# Altium integrated library Microchip Power Management MOSFET Driver.IntLib: 509 symbols (part 2 of 13)
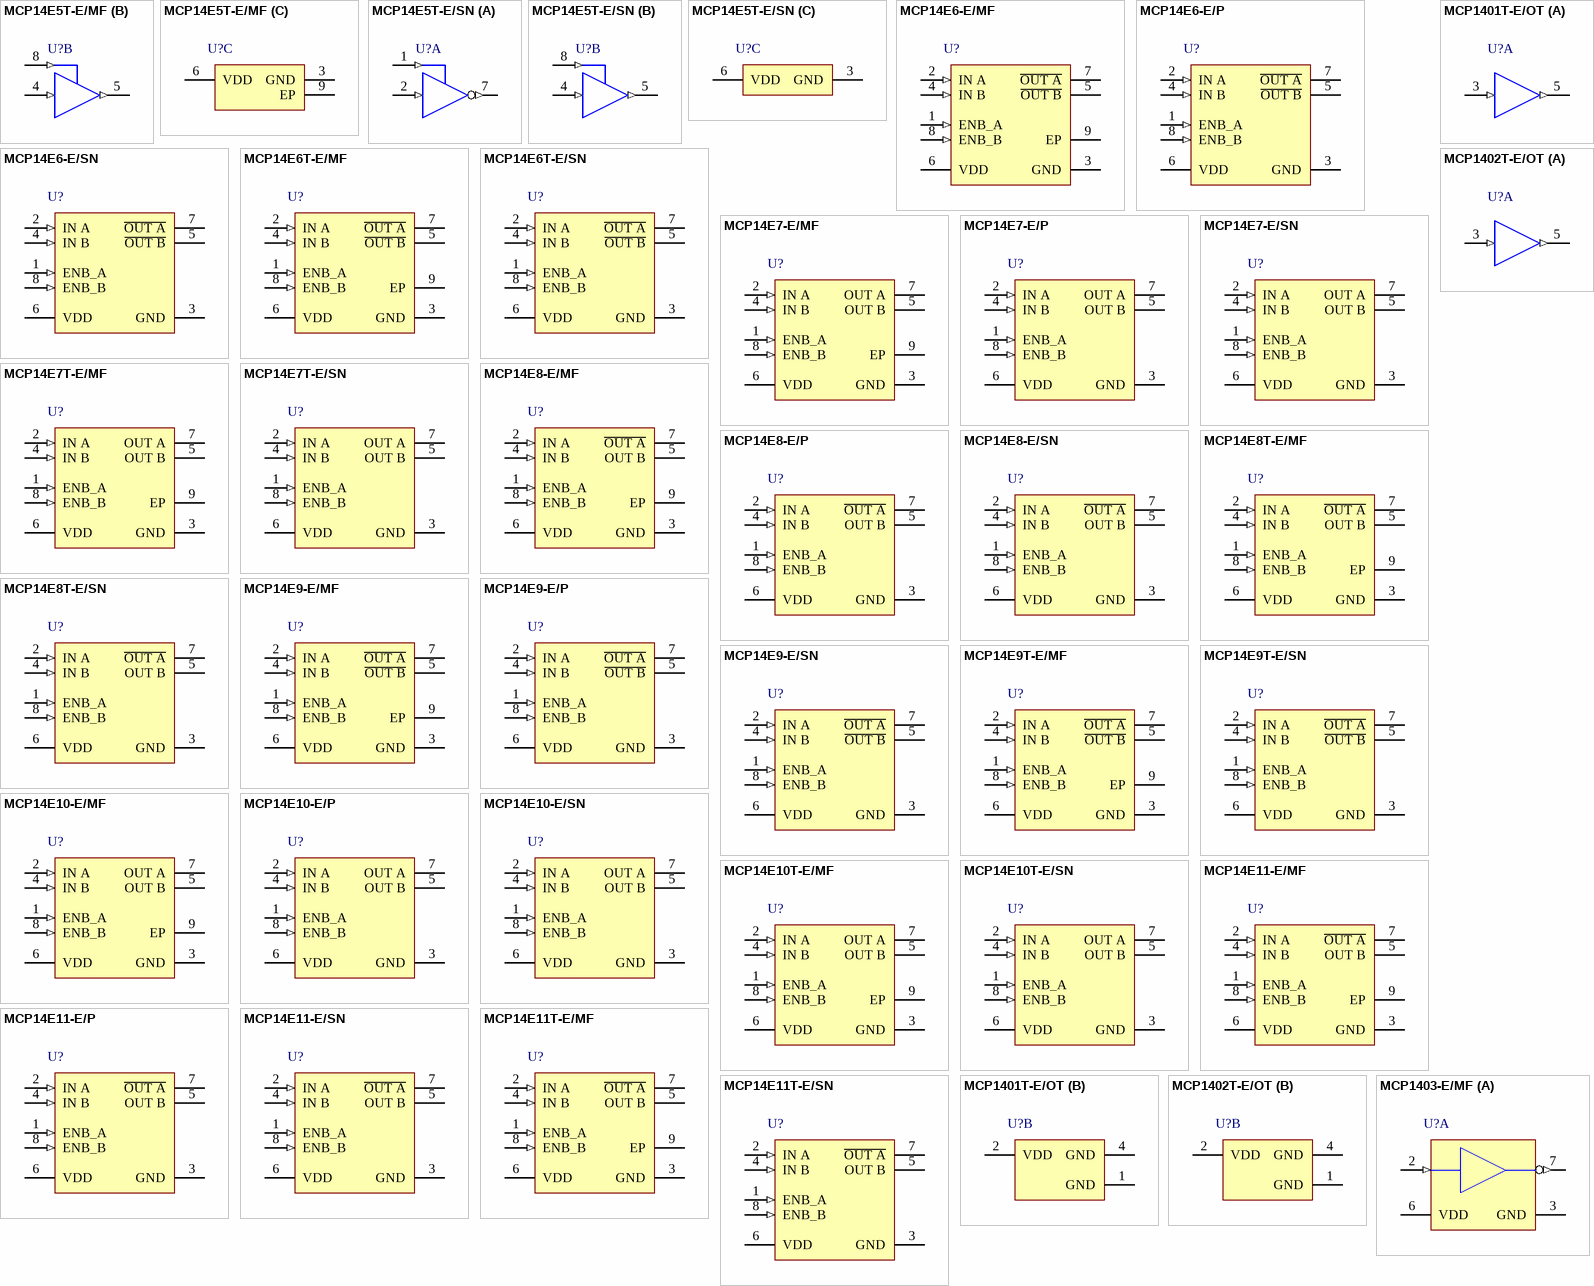
[diagram p27: symbols MCP14E5T-E/MF to MCP1403-E/MF]

## MCP14E10-E/MF
designator U?
3.0 A Dual High-Speed Power MOSFET Driver with Enable, 18 V, 45 / 45 ns Delay, -40 to 125 degC, 8-pin DFN (MF8), Tube; Manufacturer: Microchip; PartNumber: MCP14E10-E/MF; DatasheetVersion: Rev. A; PackageVersion: C04-062C; PackageReference: DFN-MF8; PackageDescription: 8-Lead Plastic Dual Flat, No Lead Package, 3 x 3 mm Body, 0.65 mm Pitch; Supplier 1: Digi-Key; Supplier Part Number 1: MCP14E10-E/MF-ND; Supplier 2: Farnell; Supplier Part Number 2: 1925026; Supplier 3: Newark; Supplier Part Number 3: 41T4109; Supplier 4: Mouser; Supplier Part Number 4: 579-MCP14E10-E/MF; Mounting Technology: Surface Mount; ComponentLink1Description: Manufacturer URL; ComponentLink1URL: http://www.microchip.com; ComponentLink2Description: Datasheet; ComponentLink2URL: http://ww1.microchip.com/downloads/en/DeviceDoc/25005A_MCP14E9.pdf; ComponentLink3Description: Package Specification; ComponentLink3URL: http://www.microchip.com/stellent/groups/techpub_sg/documents/packagingspec/en012702.pdf; ComponentLink4Description: Product URL; ComponentLink4URL: http://www.microchip.com/MCP14E10
footprint MCHP-DFN-MF8_V (SON, 8-Leads, Body 3x3mm, Pitch 0.65mm, Thermal Pad 2.4x1.55mm)
pins: 1 ENB_A (in) "Ouptut A Enable", 2 IN A (in) "Input A", 3 GND (power) "Ground", 4 IN B (in) "Input B", 5 OUT B (power) "Output B", 6 VDD (power) "Supply Input", 7 OUT A (power) "Output A", 8 ENB_B (in) "Output B Enable", 9 EP "Exposed Metal Pad (DFN package only). Exposed pad is electrically isolated."

## MCP14E10-E/P
designator U?
3.0 A Dual High-Speed Power MOSFET Driver with Enable, 18 V, 45 / 45 ns Delay, -40 to 125 degC, 8-pin PDIP (P8), Tube; Manufacturer: Microchip; PartNumber: MCP14E10-E/P; DatasheetVersion: Rev. A; PackageVersion: C04-018B; PackageReference: PDIP-P8; PackageDescription: 8-Pin Plastic Dual In-Line, Row Spacing 7.62 mm, 9.5 x 6.6 mm Body, 2.54 mm Pitch; Supplier 1: Digi-Key; Supplier Part Number 1: MCP14E10-E/P-ND; Supplier 2: Farnell; Supplier Part Number 2: 1925028; Supplier 3: Newark; Supplier Part Number 3: 41T4110; Supplier 4: Mouser; Supplier Part Number 4: 579-MCP14E10-E/P; Mounting Technology: Through Hole; ComponentLink1Description: Manufacturer URL; ComponentLink1URL: http://www.microchip.com; ComponentLink2Description: Datasheet; ComponentLink2URL: http://ww1.microchip.com/downloads/en/DeviceDoc/25005A_MCP14E9.pdf; ComponentLink3Description: Package Specification; ComponentLink3URL: http://www.microchip.com/stellent/groups/techpub_sg/documents/packagingspec/en012702.pdf; ComponentLink4Description: Product URL; ComponentLink4URL: http://www.microchip.com/MCP14E10
footprint MCHP-PDIP-P8 (PDIP, 8-Leads, Body 9.5x6.604mm, Pitch 2.54mm)
pins: 1 ENB_A (in) "Ouptut A Enable", 2 IN A (in) "Input A", 3 GND (power) "Ground", 4 IN B (in) "Input B", 5 OUT B (power) "Output B", 6 VDD (power) "Supply Input", 7 OUT A (power) "Output A", 8 ENB_B (in) "Output B Enable"

## MCP14E10-E/SN
designator U?
3.0 A Dual High-Speed Power MOSFET Driver with Enable, 18 V, 45 / 45 ns Delay, -40 to 125 degC, 8-pin SOIC (SN8), Tube; Manufacturer: Microchip; PartNumber: MCP14E10-E/SN; DatasheetVersion: Rev. A; PackageVersion: C04-057C; PackageReference: SOIC-SN8; PackageDescription: 8-Lead Plastic Small Outline, 4.9 x 3.9 mm Body, 1.27 mm Pitch; Supplier 1: Digi-Key; Supplier Part Number 1: MCP14E10-E/SN-ND; Supplier 2: Farnell; Supplier Part Number 2: 1925029; Supplier 3: Newark; Supplier Part Number 3: 41T4111; Supplier 4: Mouser; Supplier Part Number 4: 579-MCP14E10-E/SN; Mounting Technology: Surface Mount; ComponentLink1Description: Manufacturer URL; ComponentLink1URL: http://www.microchip.com; ComponentLink2Description: Datasheet; ComponentLink2URL: http://ww1.microchip.com/downloads/en/DeviceDoc/25005A_MCP14E9.pdf; ComponentLink3Description: Package Specification; ComponentLink3URL: http://www.microchip.com/stellent/groups/techpub_sg/documents/packagingspec/en012702.pdf; ComponentLink4Description: Product URL; ComponentLink4URL: http://www.microchip.com/MCP14E10
footprint MCHP-SOIC-SN8_N (SOIC, 8-Leads, Body 4.9x3.9mm, Pitch 1.27mm, IPC Medium Density)
footprint MCHP-SOIC-SN8_L (SOIC, 8-Leads, Body 4.9x3.9mm, Pitch 1.27mm, IPC High Density)
footprint MCHP-SOIC-SN8_M (SOIC, 8-Leads, Body 4.9x3.9mm, Pitch 1.27mm, IPC Low Density)
pins: 1 ENB_A (in) "Ouptut A Enable", 2 IN A (in) "Input A", 3 GND (power) "Ground", 4 IN B (in) "Input B", 5 OUT B (power) "Output B", 6 VDD (power) "Supply Input", 7 OUT A (power) "Output A", 8 ENB_B (in) "Output B Enable"

## MCP14E10T-E/MF
designator U?
3.0 A Dual High-Speed Power MOSFET Driver with Enable, 18 V, 45 / 45 ns Delay, -40 to 125 degC, 8-pin DFN (MF8), Tape and Reel; Manufacturer: Microchip; PartNumber: MCP14E10T-E/MF; DatasheetVersion: Rev. A; PackageVersion: C04-062C; PackageReference: DFN-MF8; PackageDescription: 8-Lead Plastic Dual Flat, No Lead Package, 3 x 3 mm Body, 0.65 mm Pitch; Supplier 1: Digi-Key; Supplier Part Number 1: MCP14E10T-E/MF-ND; Supplier 2: Mouser; Supplier Part Number 2: 579-MCP14E10T-E/MF; Mounting Technology: Surface Mount; ComponentLink1Description: Manufacturer URL; ComponentLink1URL: http://www.microchip.com; ComponentLink2Description: Datasheet; ComponentLink2URL: http://ww1.microchip.com/downloads/en/DeviceDoc/25005A_MCP14E9.pdf; ComponentLink3Description: Package Specification; ComponentLink3URL: http://www.microchip.com/stellent/groups/techpub_sg/documents/packagingspec/en012702.pdf; ComponentLink4Description: Product URL; ComponentLink4URL: http://www.microchip.com/MCP14E10
footprint MCHP-DFN-MF8_V (SON, 8-Leads, Body 3x3mm, Pitch 0.65mm, Thermal Pad 2.4x1.55mm)
pins: 1 ENB_A (in) "Ouptut A Enable", 2 IN A (in) "Input A", 3 GND (power) "Ground", 4 IN B (in) "Input B", 5 OUT B (power) "Output B", 6 VDD (power) "Supply Input", 7 OUT A (power) "Output A", 8 ENB_B (in) "Output B Enable", 9 EP "Exposed Metal Pad (DFN package only). Exposed pad is electrically isolated."

## MCP14E10T-E/SN
designator U?
3.0 A Dual High-Speed Power MOSFET Driver with Enable, 18 V, 45 / 45 ns Delay, -40 to 125 degC, 8-pin SOIC (SN8), Tape and Reel; Manufacturer: Microchip; PartNumber: MCP14E10T-E/SN; DatasheetVersion: Rev. A; PackageVersion: C04-057C; PackageReference: SOIC-SN8; PackageDescription: 8-Lead Plastic Small Outline, 4.9 x 3.9 mm Body, 1.27 mm Pitch; Supplier 1: Digi-Key; Supplier Part Number 1: MCP14E10T-E/SN-ND; Supplier 2: Mouser; Supplier Part Number 2: 579-MCP14E10T-E/SN; Mounting Technology: Surface Mount; ComponentLink1Description: Manufacturer URL; ComponentLink1URL: http://www.microchip.com; ComponentLink2Description: Datasheet; ComponentLink2URL: http://ww1.microchip.com/downloads/en/DeviceDoc/25005A_MCP14E9.pdf; ComponentLink3Description: Package Specification; ComponentLink3URL: http://www.microchip.com/stellent/groups/techpub_sg/documents/packagingspec/en012702.pdf; ComponentLink4Description: Product URL; ComponentLink4URL: http://www.microchip.com/MCP14E10
footprint MCHP-SOIC-SN8_N (SOIC, 8-Leads, Body 4.9x3.9mm, Pitch 1.27mm, IPC Medium Density)
footprint MCHP-SOIC-SN8_L (SOIC, 8-Leads, Body 4.9x3.9mm, Pitch 1.27mm, IPC High Density)
footprint MCHP-SOIC-SN8_M (SOIC, 8-Leads, Body 4.9x3.9mm, Pitch 1.27mm, IPC Low Density)
pins: 1 ENB_A (in) "Ouptut A Enable", 2 IN A (in) "Input A", 3 GND (power) "Ground", 4 IN B (in) "Input B", 5 OUT B (power) "Output B", 6 VDD (power) "Supply Input", 7 OUT A (power) "Output A", 8 ENB_B (in) "Output B Enable"

## MCP14E11-E/MF
designator U?
3.0 A Dual High-Speed Power MOSFET Driver with Enable, 18 V, 45 / 45 ns Delay, -40 to 125 degC, 8-pin DFN (MF8), Tube; Manufacturer: Microchip; PartNumber: MCP14E11-E/MF; DatasheetVersion: Rev. A; PackageVersion: C04-062C; PackageReference: DFN-MF8; PackageDescription: 8-Lead Plastic Dual Flat, No Lead Package, 3 x 3 mm Body, 0.65 mm Pitch; Supplier 1: Digi-Key; Supplier Part Number 1: MCP14E11-E/MF-ND; Supplier 2: Farnell; Supplier Part Number 2: 1925030; Supplier 3: Newark; Supplier Part Number 3: 41T4114; Supplier 4: Mouser; Supplier Part Number 4: 579-MCP14E11-E/MF; Mounting Technology: Surface Mount; ComponentLink1Description: Manufacturer URL; ComponentLink1URL: http://www.microchip.com; ComponentLink2Description: Datasheet; ComponentLink2URL: http://ww1.microchip.com/downloads/en/DeviceDoc/25005A_MCP14E9.pdf; ComponentLink3Description: Package Specification; ComponentLink3URL: http://www.microchip.com/stellent/groups/techpub_sg/documents/packagingspec/en012702.pdf; ComponentLink4Description: Product URL; ComponentLink4URL: http://www.microchip.com/MCP14E11
footprint MCHP-DFN-MF8_V (SON, 8-Leads, Body 3x3mm, Pitch 0.65mm, Thermal Pad 2.4x1.55mm)
pins: 1 ENB_A (in) "Ouptut A Enable", 2 IN A (in) "Input A", 3 GND (power) "Ground", 4 IN B (in) "Input B", 5 OUT B (power) "Output B", 6 VDD (power) "Supply Input", 7 ~{OUT A} (power) "Output A", 8 ENB_B (in) "Output B Enable", 9 EP "Exposed Metal Pad (DFN package only). Exposed pad is electrically isolated."

## MCP14E11-E/P
designator U?
3.0 A Dual High-Speed Power MOSFET Driver with Enable, 18 V, 45 / 45 ns Delay, -40 to 125 degC, 8-pin PDIP (P8), Tube; Manufacturer: Microchip; PartNumber: MCP14E11-E/P; DatasheetVersion: Rev. A; PackageVersion: C04-018B; PackageReference: PDIP-P8; PackageDescription: 8-Pin Plastic Dual In-Line, Row Spacing 7.62 mm, 9.5 x 6.6 mm Body, 2.54 mm Pitch; Supplier 1: Digi-Key; Supplier Part Number 1: MCP14E11-E/P-ND; Supplier 2: Farnell; Supplier Part Number 2: 2009285; Supplier 3: Newark; Supplier Part Number 3: 41T4115; Supplier 4: Mouser; Supplier Part Number 4: 579-MCP14E11-E/P; Mounting Technology: Through Hole; ComponentLink1Description: Manufacturer URL; ComponentLink1URL: http://www.microchip.com; ComponentLink2Description: Datasheet; ComponentLink2URL: http://ww1.microchip.com/downloads/en/DeviceDoc/25005A_MCP14E9.pdf; ComponentLink3Description: Package Specification; ComponentLink3URL: http://www.microchip.com/stellent/groups/techpub_sg/documents/packagingspec/en012702.pdf; ComponentLink4Description: Product URL; ComponentLink4URL: http://www.microchip.com/MCP14E11
footprint MCHP-PDIP-P8 (PDIP, 8-Leads, Body 9.5x6.604mm, Pitch 2.54mm)
pins: 1 ENB_A (in) "Ouptut A Enable", 2 IN A (in) "Input A", 3 GND (power) "Ground", 4 IN B (in) "Input B", 5 OUT B (power) "Output B", 6 VDD (power) "Supply Input", 7 ~{OUT A} (power) "Output A", 8 ENB_B (in) "Output B Enable"

## MCP14E11-E/SN
designator U?
3.0 A Dual High-Speed Power MOSFET Driver with Enable, 18 V, 45 / 45 ns Delay, -40 to 125 degC, 8-pin SOIC (SN8), Tube; Manufacturer: Microchip; PartNumber: MCP14E11-E/SN; DatasheetVersion: Rev. A; PackageVersion: C04-057C; PackageReference: SOIC-SN8; PackageDescription: 8-Lead Plastic Small Outline, 4.9 x 3.9 mm Body, 1.27 mm Pitch; Supplier 1: Digi-Key; Supplier Part Number 1: MCP14E11-E/SN-ND; Supplier 2: Farnell; Supplier Part Number 2: 1925031; Supplier 3: Newark; Supplier Part Number 3: 41T4116; Supplier 4: Mouser; Supplier Part Number 4: 579-MCP14E11-E/SN; Mounting Technology: Surface Mount; ComponentLink1Description: Manufacturer URL; ComponentLink1URL: http://www.microchip.com; ComponentLink2Description: Datasheet; ComponentLink2URL: http://ww1.microchip.com/downloads/en/DeviceDoc/25005A_MCP14E9.pdf; ComponentLink3Description: Package Specification; ComponentLink3URL: http://www.microchip.com/stellent/groups/techpub_sg/documents/packagingspec/en012702.pdf; ComponentLink4Description: Product URL; ComponentLink4URL: http://www.microchip.com/MCP14E11
footprint MCHP-SOIC-SN8_N (SOIC, 8-Leads, Body 4.9x3.9mm, Pitch 1.27mm, IPC Medium Density)
footprint MCHP-SOIC-SN8_L (SOIC, 8-Leads, Body 4.9x3.9mm, Pitch 1.27mm, IPC High Density)
footprint MCHP-SOIC-SN8_M (SOIC, 8-Leads, Body 4.9x3.9mm, Pitch 1.27mm, IPC Low Density)
pins: 1 ENB_A (in) "Ouptut A Enable", 2 IN A (in) "Input A", 3 GND (power) "Ground", 4 IN B (in) "Input B", 5 OUT B (power) "Output B", 6 VDD (power) "Supply Input", 7 ~{OUT A} (power) "Output A", 8 ENB_B (in) "Output B Enable"

## MCP14E11T-E/MF
designator U?
3.0 A Dual High-Speed Power MOSFET Driver with Enable, 18 V, 45 / 45 ns Delay, -40 to 125 degC, 8-pin DFN (MF8), Tape and Reel; Manufacturer: Microchip; PartNumber: MCP14E11T-E/MF; DatasheetVersion: Rev. A; PackageVersion: C04-062C; PackageReference: DFN-MF8; PackageDescription: 8-Lead Plastic Dual Flat, No Lead Package, 3 x 3 mm Body, 0.65 mm Pitch; Supplier 1: Digi-Key; Supplier Part Number 1: MCP14E11T-E/MF-ND; Supplier 2: Mouser; Supplier Part Number 2: 579-MCP14E11T-E/MF; Mounting Technology: Surface Mount; ComponentLink1Description: Manufacturer URL; ComponentLink1URL: http://www.microchip.com; ComponentLink2Description: Datasheet; ComponentLink2URL: http://ww1.microchip.com/downloads/en/DeviceDoc/25005A_MCP14E9.pdf; ComponentLink3Description: Package Specification; ComponentLink3URL: http://www.microchip.com/stellent/groups/techpub_sg/documents/packagingspec/en012702.pdf; ComponentLink4Description: Product URL; ComponentLink4URL: http://www.microchip.com/MCP14E11
footprint MCHP-DFN-MF8_V (SON, 8-Leads, Body 3x3mm, Pitch 0.65mm, Thermal Pad 2.4x1.55mm)
pins: 1 ENB_A (in) "Ouptut A Enable", 2 IN A (in) "Input A", 3 GND (power) "Ground", 4 IN B (in) "Input B", 5 OUT B (power) "Output B", 6 VDD (power) "Supply Input", 7 ~{OUT A} (power) "Output A", 8 ENB_B (in) "Output B Enable", 9 EP "Exposed Metal Pad (DFN package only). Exposed pad is electrically isolated."

## MCP14E11T-E/SN
designator U?
3.0 A Dual High-Speed Power MOSFET Driver with Enable, 18 V, 45 / 45 ns Delay, -40 to 125 degC, 8-pin SOIC (SN8), Tape and Reel; Manufacturer: Microchip; PartNumber: MCP14E11T-E/SN; DatasheetVersion: Rev. A; PackageVersion: C04-057C; PackageReference: SOIC-SN8; PackageDescription: 8-Lead Plastic Small Outline, 4.9 x 3.9 mm Body, 1.27 mm Pitch; Supplier 1: Digi-Key; Supplier Part Number 1: MCP14E11T-E/SN-ND; Supplier 2: Newark; Supplier Part Number 2: 41T4118; Supplier 3: Mouser; Supplier Part Number 3: 579-MCP14E11T-E/SN; Mounting Technology: Surface Mount; ComponentLink1Description: Manufacturer URL; ComponentLink1URL: http://www.microchip.com; ComponentLink2Description: Datasheet; ComponentLink2URL: http://ww1.microchip.com/downloads/en/DeviceDoc/25005A_MCP14E9.pdf; ComponentLink3Description: Package Specification; ComponentLink3URL: http://www.microchip.com/stellent/groups/techpub_sg/documents/packagingspec/en012702.pdf; ComponentLink4Description: Product URL; ComponentLink4URL: http://www.microchip.com/MCP14E11
footprint MCHP-SOIC-SN8_N (SOIC, 8-Leads, Body 4.9x3.9mm, Pitch 1.27mm, IPC Medium Density)
footprint MCHP-SOIC-SN8_L (SOIC, 8-Leads, Body 4.9x3.9mm, Pitch 1.27mm, IPC High Density)
footprint MCHP-SOIC-SN8_M (SOIC, 8-Leads, Body 4.9x3.9mm, Pitch 1.27mm, IPC Low Density)
pins: 1 ENB_A (in) "Ouptut A Enable", 2 IN A (in) "Input A", 3 GND (power) "Ground", 4 IN B (in) "Input B", 5 OUT B (power) "Output B", 6 VDD (power) "Supply Input", 7 ~{OUT A} (power) "Output A", 8 ENB_B (in) "Output B Enable"

## MCP1401T-E/OT
designator U?
Tiny 500 mA, High-Speed Power MOSFET Driver, Inverting, Extended Temperature, Tape and Reel; Manufacturer: Microchip; PartNumber: MCP1401T-E/OT; DatasheetVersion: revB, Dec-2007; PackageVersion: revBB, Aug-2009; PackageReference: SOT-23-OT5; PackageDescription: 5-Lead Plastic Small Outline Transistor (OT) [SOT-23]; Supplier 1: Digi-Key; Supplier Part Number 1: MCP1401T-E/OTTR-ND; Supplier 2: Digi-Key; Supplier Part Number 2: MCP1401T-E/OTCT-ND; Supplier 3: Digi-Key; Supplier Part Number 3: MCP1401T-E/OTDKR-ND; Supplier 4: Farnell; Supplier Part Number 4: 1439710; Supplier 5: Newark; Supplier Part Number 5: 58M8863; Supplier 6: Newark; Supplier Part Number 6: 54M4815; Supplier 7: Mouser; Supplier Part Number 7: 579-MCP1401T-E/OT; Mounting Technology: Surface Mount; Code_IPC: SOT23-5; ComponentLink1Description: Manufacturer URL; ComponentLink1URL: http://www.microchip.com/; ComponentLink2Description: Datasheet; ComponentLink2URL: http://ww1.microchip.com/downloads/en/DeviceDoc/22052b.pdf; ComponentLink3Description: Package Specification; ComponentLink3URL: http://www.microchip.com/stellent/groups/techpub_sg/documents/packagingspec/en012702.pdf
footprint SOT-23-OT5_N (SOT23, 5-Leads, Body 2.9x1.6mm, Pitch 0.95mm, Lead Span 2.7mm, IPC Medium Density)
footprint SOT-23-OT5_L (SOT23, 5-Leads, Body 2.9x1.6mm, Pitch 0.95mm, Lead Span 2.7mm, IPC High Density)
footprint SOT-23-OT5_M (SOT23, 5-Leads, Body 2.9x1.6mm, Pitch 0.95mm, Lead Span 2.7mm, IPC Low Density)
part A pins: 3 IN (in), 5 ~{OUT} (out)
part B pins: 1 GND (power), 2 VDD (power), 4 GND (power)

## MCP1402T-E/OT
designator U?
Tiny 500 mA, High-Speed Power MOSFET Driver, Non Inverting, Extended Temperature, Tape and Reel; Manufacturer: Microchip; PartNumber: MCP1402T-E/OT; DatasheetVersion: revB, Dec-2007; PackageVersion: revBB, Aug-2009; PackageReference: SOT-23-OT5; PackageDescription: 5-Lead Plastic Small Outline Transistor (OT) [SOT-23]; Supplier 1: Digi-Key; Supplier Part Number 1: MCP1402T-E/OTTR-ND; Supplier 2: Digi-Key; Supplier Part Number 2: MCP1402T-E/OTCT-ND; Supplier 3: Digi-Key; Supplier Part Number 3: MCP1402T-E/OTDKR-ND; Supplier 4: Farnell; Supplier Part Number 4: 1439711; Supplier 5: Newark; Supplier Part Number 5: 54M4816; Supplier 6: Mouser; Supplier Part Number 6: 579-MCP1402T-E/OT; Mounting Technology: Surface Mount; Code_IPC: SOT23-5; ComponentLink1Description: Manufacturer URL; ComponentLink1URL: http://www.microchip.com/; ComponentLink2Description: Datasheet; ComponentLink2URL: http://ww1.microchip.com/downloads/en/DeviceDoc/22052b.pdf; ComponentLink3Description: Package Specification; ComponentLink3URL: http://www.microchip.com/stellent/groups/techpub_sg/documents/packagingspec/en012702.pdf
footprint SOT-23-OT5_N (SOT23, 5-Leads, Body 2.9x1.6mm, Pitch 0.95mm, Lead Span 2.7mm, IPC Medium Density)
footprint SOT-23-OT5_L (SOT23, 5-Leads, Body 2.9x1.6mm, Pitch 0.95mm, Lead Span 2.7mm, IPC High Density)
footprint SOT-23-OT5_M (SOT23, 5-Leads, Body 2.9x1.6mm, Pitch 0.95mm, Lead Span 2.7mm, IPC Low Density)
part A pins: 3 IN (in), 5 OUT (out)
part B pins: 1 GND (power), 2 VDD (power), 4 GND (power)

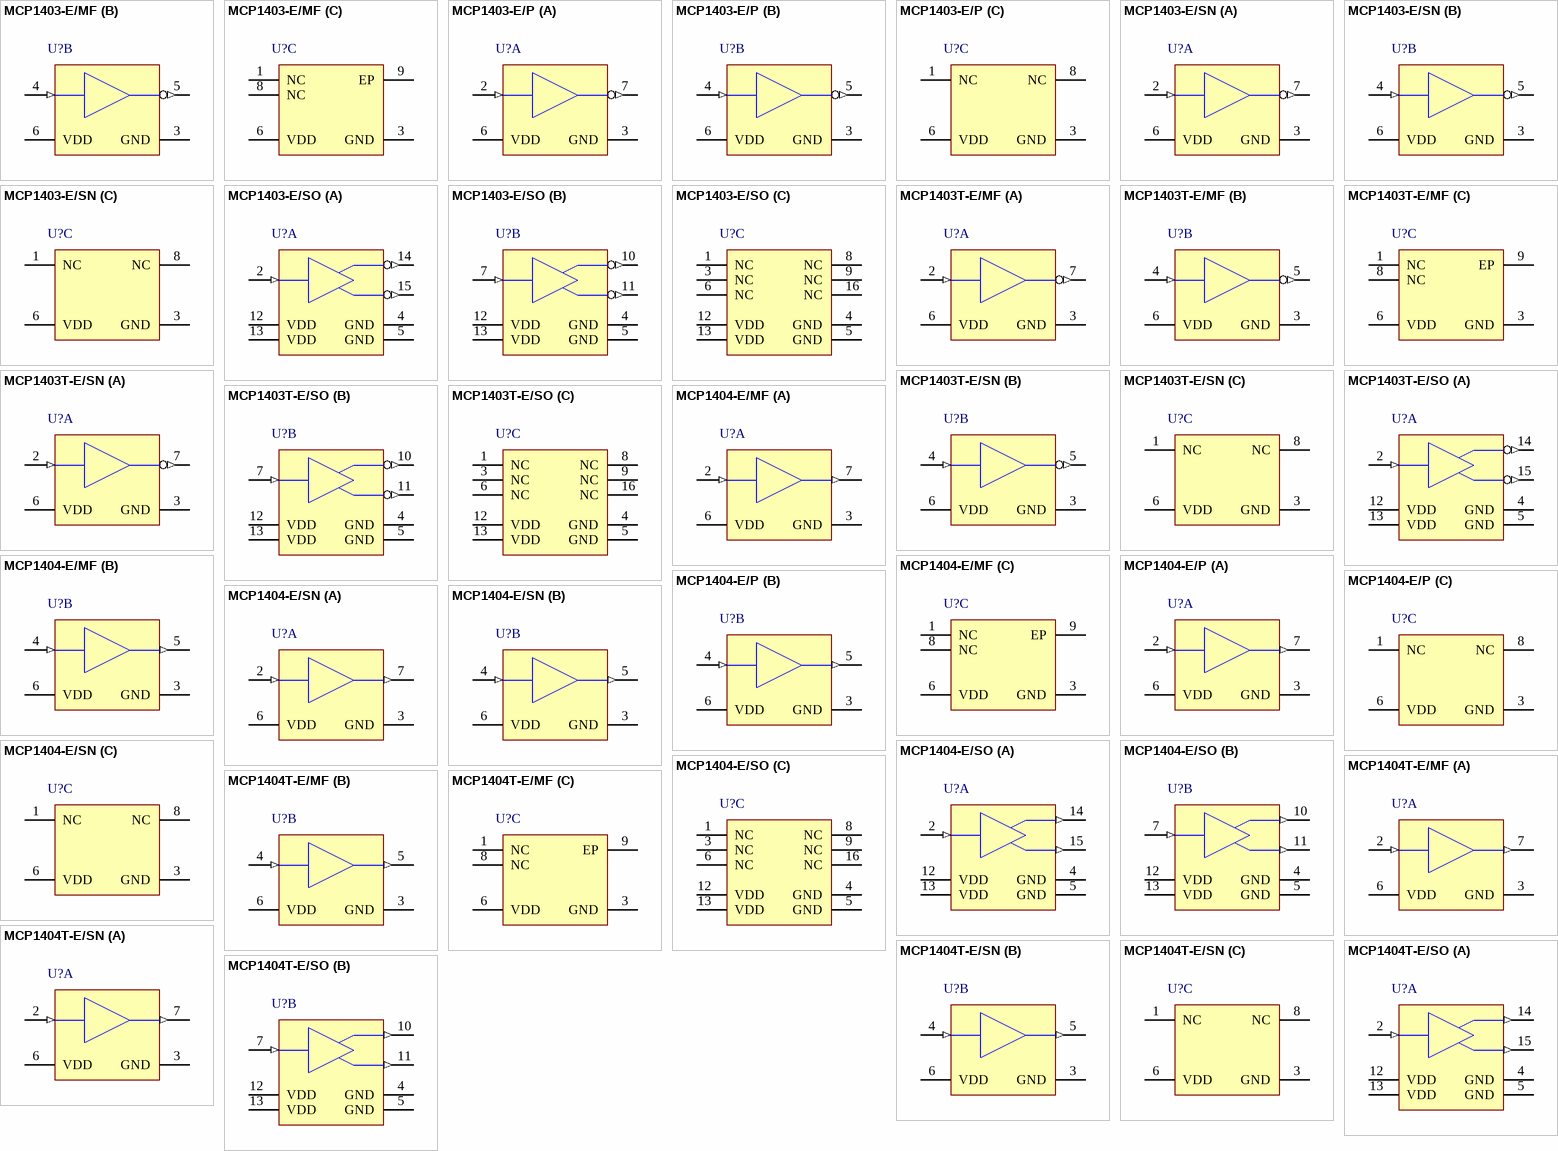
[diagram p2: symbols MCP1403-E/MF to MCP1404T-E/SO]

## MCP1403-E/MF
designator U?
4.5A Dual High-Speed Power MOSFET Drivers, Inverting, Extended Temperature; Manufacturer: Microchip; PartNumber: MCP1403-E/MF; DatasheetVersion: revB, May-2007; PackageVersion: revBB, Aug-2009; PackageReference: DFN-MF8; PackageDescription: 8-Lead Plastic Dual Flat, No Lead Package (MF) - 3x3x0.9mm Body [DFN]; Supplier 1: Digi-Key; Supplier Part Number 1: MCP1403-E/MF-ND; Supplier 2: Mouser; Supplier Part Number 2: 579-MCP1403-E/MF; Mounting Technology: Surface Mount; ComponentLink1Description: Manufacturer URL; ComponentLink1URL: http://www.microchip.com/; ComponentLink2Description: Datasheet; ComponentLink2URL: http://ww1.microchip.com/downloads/en/DeviceDoc/22022b.pdf; ComponentLink3Description: Package Specification; ComponentLink3URL: http://www.microchip.com/stellent/groups/techpub_sg/documents/packagingspec/en012702.pdf
footprint DFN-MF8 (SON, 8-Leads, Body 3x3mm, Pitch 0.65mm, Microchip Recommended)
pins on every part: 3 GND (power), 6 VDD (power)
part A pins: 2 INA (in), 7 ~{OUTA} (out)
part B pins: 4 INB (in), 5 ~{OUTB} (out)
part C pins: 1 NC, 8 NC, 9 EP

## MCP1403-E/P
designator U?
4.5A Dual High-Speed Power MOSFET Drivers, Inverting, Extended Temperature; Manufacturer: Microchip; PartNumber: MCP1403-E/P; DatasheetVersion: revB, May-2007; PackageVersion: revBB, Aug-2009; PackageReference: PDIP300-P8; PackageDescription: 8-Lead Plastic Dual In-Line (P) - 300 mil Body [PDIP]; Supplier 1: Digi-Key; Supplier Part Number 1: MCP1403-E/P-ND; Supplier 2: Farnell; Supplier Part Number 2: 1317119; Supplier 3: Newark; Supplier Part Number 3: 31M5587; Supplier 4: Newark; Supplier Part Number 4: 17M0559; Supplier 5: Mouser; Supplier Part Number 5: 579-MCP1403-E/P; Mounting Technology: Through Hole; Code_JEDEC: MS-001; ComponentLink1Description: Manufacturer URL; ComponentLink1URL: http://www.microchip.com/; ComponentLink2Description: Datasheet; ComponentLink2URL: http://ww1.microchip.com/downloads/en/DeviceDoc/22022b.pdf; ComponentLink3Description: Package Specification; ComponentLink3URL: http://www.microchip.com/stellent/groups/techpub_sg/documents/packagingspec/en012702.pdf
footprint PDIP300-P8 (DIP, 8-Leads, Row Spacing 7.62mm, Pitch 2.54mm, Body 9.5x6.6mm)
pins on every part: 3 GND (power), 6 VDD (power)
part A pins: 2 INA (in), 7 ~{OUTA} (out)
part B pins: 4 INB (in), 5 ~{OUTB} (out)
part C pins: 1 NC, 8 NC

## MCP1403-E/SN
designator U?
4.5A Dual High-Speed Power MOSFET Drivers, Inverting, Extended Temperature; Manufacturer: Microchip; PartNumber: MCP1403-E/SN; DatasheetVersion: revB, May-2007; PackageVersion: revBB, Aug-2009; PackageReference: SOIC-SN8; PackageDescription: 8-Lead Plastic Small Outline (SN) - Narrow, 3.90mm Body [SOIC]; Supplier 1: Digi-Key; Supplier Part Number 1: MCP1403-E/SN-ND; Supplier 2: Farnell; Supplier Part Number 2: 1332075; Supplier 3: Newark; Supplier Part Number 3: 34M7406; Supplier 4: Mouser; Supplier Part Number 4: 579-MCP1403-E/SN; Mounting Technology: Surface Mount; Code_JEDEC: MS-012; Code_IPC: SOIC127P600-8; ComponentLink1Description: Manufacturer URL; ComponentLink1URL: http://www.microchip.com/; ComponentLink2Description: Datasheet; ComponentLink2URL: http://ww1.microchip.com/downloads/en/DeviceDoc/22022b.pdf; ComponentLink3Description: Package Specification; ComponentLink3URL: http://www.microchip.com/stellent/groups/techpub_sg/documents/packagingspec/en012702.pdf
footprint SOIC-SN8_N (SOIC, 8-Leads, Body 4.9x3.8mm, Pitch 1.27mm, IPC Medium Density)
footprint SOIC-SN8_L (SOIC, 8-Leads, Body 4.9x3.8mm, Pitch 1.27mm, IPC High Density)
footprint SOIC-SN8_M (SOIC, 8-Leads, Body 4.9x3.8mm, Pitch 1.27mm, IPC Low Density)
pins on every part: 3 GND (power), 6 VDD (power)
part A pins: 2 INA (in), 7 ~{OUTA} (out)
part B pins: 4 INB (in), 5 ~{OUTB} (out)
part C pins: 1 NC, 8 NC

## MCP1403-E/SO
designator U?
4.5A Dual High-Speed Power MOSFET Drivers, Inverting, Extended Temperature; Manufacturer: Microchip; PartNumber: MCP1403-E/SO; DatasheetVersion: revB, May-2007; PackageVersion: revBB, Aug-2009; PackageReference: SOIC-SO16; PackageDescription: 16-Lead Plastic Small Outline (SO) - Wide 7.50mm Body [SOIC]; Supplier 1: Digi-Key; Supplier Part Number 1: MCP1403-E/SO-ND; Supplier 2: Mouser; Supplier Part Number 2: 579-MCP1403-E/SO; Mounting Technology: Surface Mount; Code_JEDEC: MS-013-AA; Code_IPC: SOIC127P1030-16; ComponentLink1Description: Manufacturer URL; ComponentLink1URL: http://www.microchip.com/; ComponentLink2Description: Datasheet; ComponentLink2URL: http://ww1.microchip.com/downloads/en/DeviceDoc/22022b.pdf; ComponentLink3Description: Package Specification; ComponentLink3URL: http://www.microchip.com/stellent/groups/techpub_sg/documents/packagingspec/en012702.pdf
footprint SOIC-SO16_N (SOIC, 16-Leads, Body 10.3x7.5mm, Pitch 1.27mm, IPC Medium Density)
footprint SOIC-SO16_L (SOIC, 16-Leads, Body 10.3x7.5mm, Pitch 1.27mm, IPC High Density)
footprint SOIC-SO16_M (SOIC, 16-Leads, Body 10.3x7.5mm, Pitch 1.27mm, IPC Low Density)
pins on every part: 4 GND (power), 5 GND (power), 12 VDD (power), 13 VDD (power)
part A pins: 2 INA (in), 14 ~{OUTA} (out), 15 ~{OUTA} (out)
part B pins: 7 INB (in), 10 ~{OUTB} (out), 11 ~{OUTB} (out)
part C pins: 1 NC, 3 NC, 6 NC, 8 NC, 9 NC, 16 NC

## MCP1403T-E/MF
designator U?
4.5A Dual High-Speed Power MOSFET Drivers, Inverting, Extended Temperature, Tape and Reel; Manufacturer: Microchip; PartNumber: MCP1403T-E/MF; DatasheetVersion: revB, May-2007; PackageVersion: revBB, Aug-2009; PackageReference: DFN-MF8; PackageDescription: 8-Lead Plastic Dual Flat, No Lead Package (MF) - 3x3x0.9mm Body [DFN]; Supplier 1: Digi-Key; Supplier Part Number 1: MCP1403T-E/MFTR-ND; Supplier 2: Mouser; Supplier Part Number 2: 579-MCP1403T-E/MF; Mounting Technology: Surface Mount; ComponentLink1Description: Manufacturer URL; ComponentLink1URL: http://www.microchip.com/; ComponentLink2Description: Datasheet; ComponentLink2URL: http://ww1.microchip.com/downloads/en/DeviceDoc/22022b.pdf; ComponentLink3Description: Package Specification; ComponentLink3URL: http://www.microchip.com/stellent/groups/techpub_sg/documents/packagingspec/en012702.pdf
footprint DFN-MF8 (SON, 8-Leads, Body 3x3mm, Pitch 0.65mm, Microchip Recommended)
pins on every part: 3 GND (power), 6 VDD (power)
part A pins: 2 INA (in), 7 ~{OUTA} (out)
part B pins: 4 INB (in), 5 ~{OUTB} (out)
part C pins: 1 NC, 8 NC, 9 EP

## MCP1403T-E/SN
designator U?
4.5A Dual High-Speed Power MOSFET Drivers, Inverting, Extended Temperature, Tape and Reel; Manufacturer: Microchip; PartNumber: MCP1403T-E/SN; DatasheetVersion: revB, May-2007; PackageVersion: revBB, Aug-2009; PackageReference: SOIC-SN8; PackageDescription: 8-Lead Plastic Small Outline (SN) - Narrow, 3.90mm Body [SOIC]; Supplier 1: Digi-Key; Supplier Part Number 1: MCP1403T-E/SNTR-ND; Supplier 2: Mouser; Supplier Part Number 2: 579-MCP1403T-E/SN; Mounting Technology: Surface Mount; Code_JEDEC: MS-012; Code_IPC: SOIC127P600-8; ComponentLink1Description: Manufacturer URL; ComponentLink1URL: http://www.microchip.com/; ComponentLink2Description: Datasheet; ComponentLink2URL: http://ww1.microchip.com/downloads/en/DeviceDoc/22022b.pdf; ComponentLink3Description: Package Specification; ComponentLink3URL: http://www.microchip.com/stellent/groups/techpub_sg/documents/packagingspec/en012702.pdf
footprint SOIC-SN8_N (SOIC, 8-Leads, Body 4.9x3.8mm, Pitch 1.27mm, IPC Medium Density)
footprint SOIC-SN8_L (SOIC, 8-Leads, Body 4.9x3.8mm, Pitch 1.27mm, IPC High Density)
footprint SOIC-SN8_M (SOIC, 8-Leads, Body 4.9x3.8mm, Pitch 1.27mm, IPC Low Density)
pins on every part: 3 GND (power), 6 VDD (power)
part A pins: 2 INA (in), 7 ~{OUTA} (out)
part B pins: 4 INB (in), 5 ~{OUTB} (out)
part C pins: 1 NC, 8 NC

## MCP1403T-E/SO
designator U?
4.5A Dual High-Speed Power MOSFET Drivers, Inverting, Extended Temperature, Tape and Reel; Manufacturer: Microchip; PartNumber: MCP1403T-E/SO; DatasheetVersion: revB, May-2007; PackageVersion: revBB, Aug-2009; PackageReference: SOIC-SO16; PackageDescription: 16-Lead Plastic Small Outline (SO) - Wide 7.50mm Body [SOIC]; Supplier 1: Digi-Key; Supplier Part Number 1: MCP1403T-E/SO-ND; Supplier 2: Mouser; Supplier Part Number 2: 579-MCP1403T-E/SO; Mounting Technology: Surface Mount; Code_JEDEC: MS-013-AA; Code_IPC: SOIC127P1030-16; ComponentLink1Description: Manufacturer URL; ComponentLink1URL: http://www.microchip.com/; ComponentLink2Description: Datasheet; ComponentLink2URL: http://ww1.microchip.com/downloads/en/DeviceDoc/22022b.pdf; ComponentLink3Description: Package Specification; ComponentLink3URL: http://www.microchip.com/stellent/groups/techpub_sg/documents/packagingspec/en012702.pdf
footprint SOIC-SO16_N (SOIC, 16-Leads, Body 10.3x7.5mm, Pitch 1.27mm, IPC Medium Density)
footprint SOIC-SO16_L (SOIC, 16-Leads, Body 10.3x7.5mm, Pitch 1.27mm, IPC High Density)
footprint SOIC-SO16_M (SOIC, 16-Leads, Body 10.3x7.5mm, Pitch 1.27mm, IPC Low Density)
pins on every part: 4 GND (power), 5 GND (power), 12 VDD (power), 13 VDD (power)
part A pins: 2 INA (in), 14 ~{OUTA} (out), 15 ~{OUTA} (out)
part B pins: 7 INB (in), 10 ~{OUTB} (out), 11 ~{OUTB} (out)
part C pins: 1 NC, 3 NC, 6 NC, 8 NC, 9 NC, 16 NC

## MCP1404-E/MF
designator U?
4.5A Dual High-Speed Power MOSFET Drivers, Non Inverting, Extended Temperature; Manufacturer: Microchip; PartNumber: MCP1404-E/MF; DatasheetVersion: revB, May-2007; PackageVersion: revBB, Aug-2009; PackageReference: DFN-MF8; PackageDescription: 8-Lead Plastic Dual Flat, No Lead Package (MF) - 3x3x0.9mm Body [DFN]; Supplier 1: Digi-Key; Supplier Part Number 1: MCP1404-E/MF-ND; Supplier 2: Mouser; Supplier Part Number 2: 579-MCP1404-E/MF; Mounting Technology: Surface Mount; ComponentLink1Description: Manufacturer URL; ComponentLink1URL: http://www.microchip.com/; ComponentLink2Description: Datasheet; ComponentLink2URL: http://ww1.microchip.com/downloads/en/DeviceDoc/22022b.pdf; ComponentLink3Description: Package Specification; ComponentLink3URL: http://www.microchip.com/stellent/groups/techpub_sg/documents/packagingspec/en012702.pdf
footprint DFN-MF8 (SON, 8-Leads, Body 3x3mm, Pitch 0.65mm, Microchip Recommended)
pins on every part: 3 GND (power), 6 VDD (power)
part A pins: 2 INA (in), 7 OUTA (out)
part B pins: 4 INB (in), 5 OUTB (out)
part C pins: 1 NC, 8 NC, 9 EP

## MCP1404-E/P
designator U?
4.5A Dual High-Speed Power MOSFET Drivers, Non Inverting, Extended Temperature; Manufacturer: Microchip; PartNumber: MCP1404-E/P; DatasheetVersion: revB, May-2007; PackageVersion: revBB, Aug-2009; PackageReference: PDIP300-P8; PackageDescription: 8-Lead Plastic Dual In-Line (P) - 300 mil Body [PDIP]; Supplier 1: Digi-Key; Supplier Part Number 1: MCP1404-E/P-ND; Supplier 2: Farnell; Supplier Part Number 2: 1317121; Supplier 3: Newark; Supplier Part Number 3: 17M0564; Supplier 4: Mouser; Supplier Part Number 4: 579-MCP1404-E/P; Mounting Technology: Through Hole; Code_JEDEC: MS-001; ComponentLink1Description: Manufacturer URL; ComponentLink1URL: http://www.microchip.com/; ComponentLink2Description: Datasheet; ComponentLink2URL: http://ww1.microchip.com/downloads/en/DeviceDoc/22022b.pdf; ComponentLink3Description: Package Specification; ComponentLink3URL: http://www.microchip.com/stellent/groups/techpub_sg/documents/packagingspec/en012702.pdf
footprint PDIP300-P8 (DIP, 8-Leads, Row Spacing 7.62mm, Pitch 2.54mm, Body 9.5x6.6mm)
pins on every part: 3 GND (power), 6 VDD (power)
part A pins: 2 INA (in), 7 OUTA (out)
part B pins: 4 INB (in), 5 OUTB (out)
part C pins: 1 NC, 8 NC

## MCP1404-E/SN
designator U?
4.5A Dual High-Speed Power MOSFET Drivers, Non Inverting, Extended Temperature; Manufacturer: Microchip; PartNumber: MCP1404-E/SN; DatasheetVersion: revB, May-2007; PackageVersion: revBB, Aug-2009; PackageReference: SOIC-SN8; PackageDescription: 8-Lead Plastic Small Outline (SN) - Narrow, 3.90mm Body [SOIC]; Supplier 1: Digi-Key; Supplier Part Number 1: MCP1404-E/SN-ND; Supplier 2: Farnell; Supplier Part Number 2: 1332076; Supplier 3: Newark; Supplier Part Number 3: 34M7407; Supplier 4: Mouser; Supplier Part Number 4: 579-MCP1404-E/SN; Mounting Technology: Surface Mount; Code_JEDEC: MS-012; Code_IPC: SOIC127P600-8; ComponentLink1Description: Manufacturer URL; ComponentLink1URL: http://www.microchip.com/; ComponentLink2Description: Datasheet; ComponentLink2URL: http://ww1.microchip.com/downloads/en/DeviceDoc/22022b.pdf; ComponentLink3Description: Package Specification; ComponentLink3URL: http://www.microchip.com/stellent/groups/techpub_sg/documents/packagingspec/en012702.pdf
footprint SOIC-SN8_N (SOIC, 8-Leads, Body 4.9x3.8mm, Pitch 1.27mm, IPC Medium Density)
footprint SOIC-SN8_L (SOIC, 8-Leads, Body 4.9x3.8mm, Pitch 1.27mm, IPC High Density)
footprint SOIC-SN8_M (SOIC, 8-Leads, Body 4.9x3.8mm, Pitch 1.27mm, IPC Low Density)
pins on every part: 3 GND (power), 6 VDD (power)
part A pins: 2 INA (in), 7 OUTA (out)
part B pins: 4 INB (in), 5 OUTB (out)
part C pins: 1 NC, 8 NC

## MCP1404-E/SO
designator U?
4.5A Dual High-Speed Power MOSFET Drivers, Non Inverting, Extended Temperature; Manufacturer: Microchip; PartNumber: MCP1404-E/SO; DatasheetVersion: revB, May-2007; PackageVersion: revBB, Aug-2009; PackageReference: SOIC-SO16; PackageDescription: 16-Lead Plastic Small Outline (SO) - Wide 7.50mm Body [SOIC]; Supplier 1: Digi-Key; Supplier Part Number 1: MCP1404-E/SO-ND; Supplier 2: Mouser; Supplier Part Number 2: 579-MCP1404-E/SO; Mounting Technology: Surface Mount; Code_JEDEC: MS-013-AA; Code_IPC: SOIC127P1030-16; ComponentLink1Description: Manufacturer URL; ComponentLink1URL: http://www.microchip.com/; ComponentLink2Description: Datasheet; ComponentLink2URL: http://ww1.microchip.com/downloads/en/DeviceDoc/22022b.pdf; ComponentLink3Description: Package Specification; ComponentLink3URL: http://www.microchip.com/stellent/groups/techpub_sg/documents/packagingspec/en012702.pdf
footprint SOIC-SO16_N (SOIC, 16-Leads, Body 10.3x7.5mm, Pitch 1.27mm, IPC Medium Density)
footprint SOIC-SO16_L (SOIC, 16-Leads, Body 10.3x7.5mm, Pitch 1.27mm, IPC High Density)
footprint SOIC-SO16_M (SOIC, 16-Leads, Body 10.3x7.5mm, Pitch 1.27mm, IPC Low Density)
pins on every part: 4 GND (power), 5 GND (power), 12 VDD (power), 13 VDD (power)
part A pins: 2 INA (in), 14 OUTA (out), 15 OUTA (out)
part B pins: 7 INB (in), 10 OUTB (out), 11 OUTB (out)
part C pins: 1 NC, 3 NC, 6 NC, 8 NC, 9 NC, 16 NC

## MCP1404T-E/MF
designator U?
4.5A Dual High-Speed Power MOSFET Drivers, Non Inverting, Extended Temperature, Tape and Reel; Manufacturer: Microchip; PartNumber: MCP1404T-E/MF; DatasheetVersion: revB, May-2007; PackageVersion: revBB, Aug-2009; PackageReference: DFN-MF8; PackageDescription: 8-Lead Plastic Dual Flat, No Lead Package (MF) - 3x3x0.9mm Body [DFN]; Supplier 1: Digi-Key; Supplier Part Number 1: MCP1404T-E/MFTR-ND; Supplier 2: Mouser; Supplier Part Number 2: 579-MCP1404T-E/MF; Mounting Technology: Surface Mount; ComponentLink1Description: Manufacturer URL; ComponentLink1URL: http://www.microchip.com/; ComponentLink2Description: Datasheet; ComponentLink2URL: http://ww1.microchip.com/downloads/en/DeviceDoc/22022b.pdf; ComponentLink3Description: Package Specification; ComponentLink3URL: http://www.microchip.com/stellent/groups/techpub_sg/documents/packagingspec/en012702.pdf
footprint DFN-MF8 (SON, 8-Leads, Body 3x3mm, Pitch 0.65mm, Microchip Recommended)
pins on every part: 3 GND (power), 6 VDD (power)
part A pins: 2 INA (in), 7 OUTA (out)
part B pins: 4 INB (in), 5 OUTB (out)
part C pins: 1 NC, 8 NC, 9 EP

## MCP1404T-E/SN
designator U?
4.5A Dual High-Speed Power MOSFET Drivers, Non Inverting, Extended Temperature, Tape and Reel; Manufacturer: Microchip; PartNumber: MCP1404T-E/SN; DatasheetVersion: revB, May-2007; PackageVersion: revBB, Aug-2009; PackageReference: SOIC-SN8; PackageDescription: 8-Lead Plastic Small Outline (SN) - Narrow, 3.90mm Body [SOIC]; Supplier 1: Digi-Key; Supplier Part Number 1: MCP1404T-E/SNTR-ND; Supplier 2: Mouser; Supplier Part Number 2: 579-MCP1404T-E/SN; Mounting Technology: Surface Mount; Code_JEDEC: MS-012; Code_IPC: SOIC127P600-8; ComponentLink1Description: Manufacturer URL; ComponentLink1URL: http://www.microchip.com/; ComponentLink2Description: Datasheet; ComponentLink2URL: http://ww1.microchip.com/downloads/en/DeviceDoc/22022b.pdf; ComponentLink3Description: Package Specification; ComponentLink3URL: http://www.microchip.com/stellent/groups/techpub_sg/documents/packagingspec/en012702.pdf
footprint SOIC-SN8_N (SOIC, 8-Leads, Body 4.9x3.8mm, Pitch 1.27mm, IPC Medium Density)
footprint SOIC-SN8_L (SOIC, 8-Leads, Body 4.9x3.8mm, Pitch 1.27mm, IPC High Density)
footprint SOIC-SN8_M (SOIC, 8-Leads, Body 4.9x3.8mm, Pitch 1.27mm, IPC Low Density)
pins on every part: 3 GND (power), 6 VDD (power)
part A pins: 2 INA (in), 7 OUTA (out)
part B pins: 4 INB (in), 5 OUTB (out)
part C pins: 1 NC, 8 NC

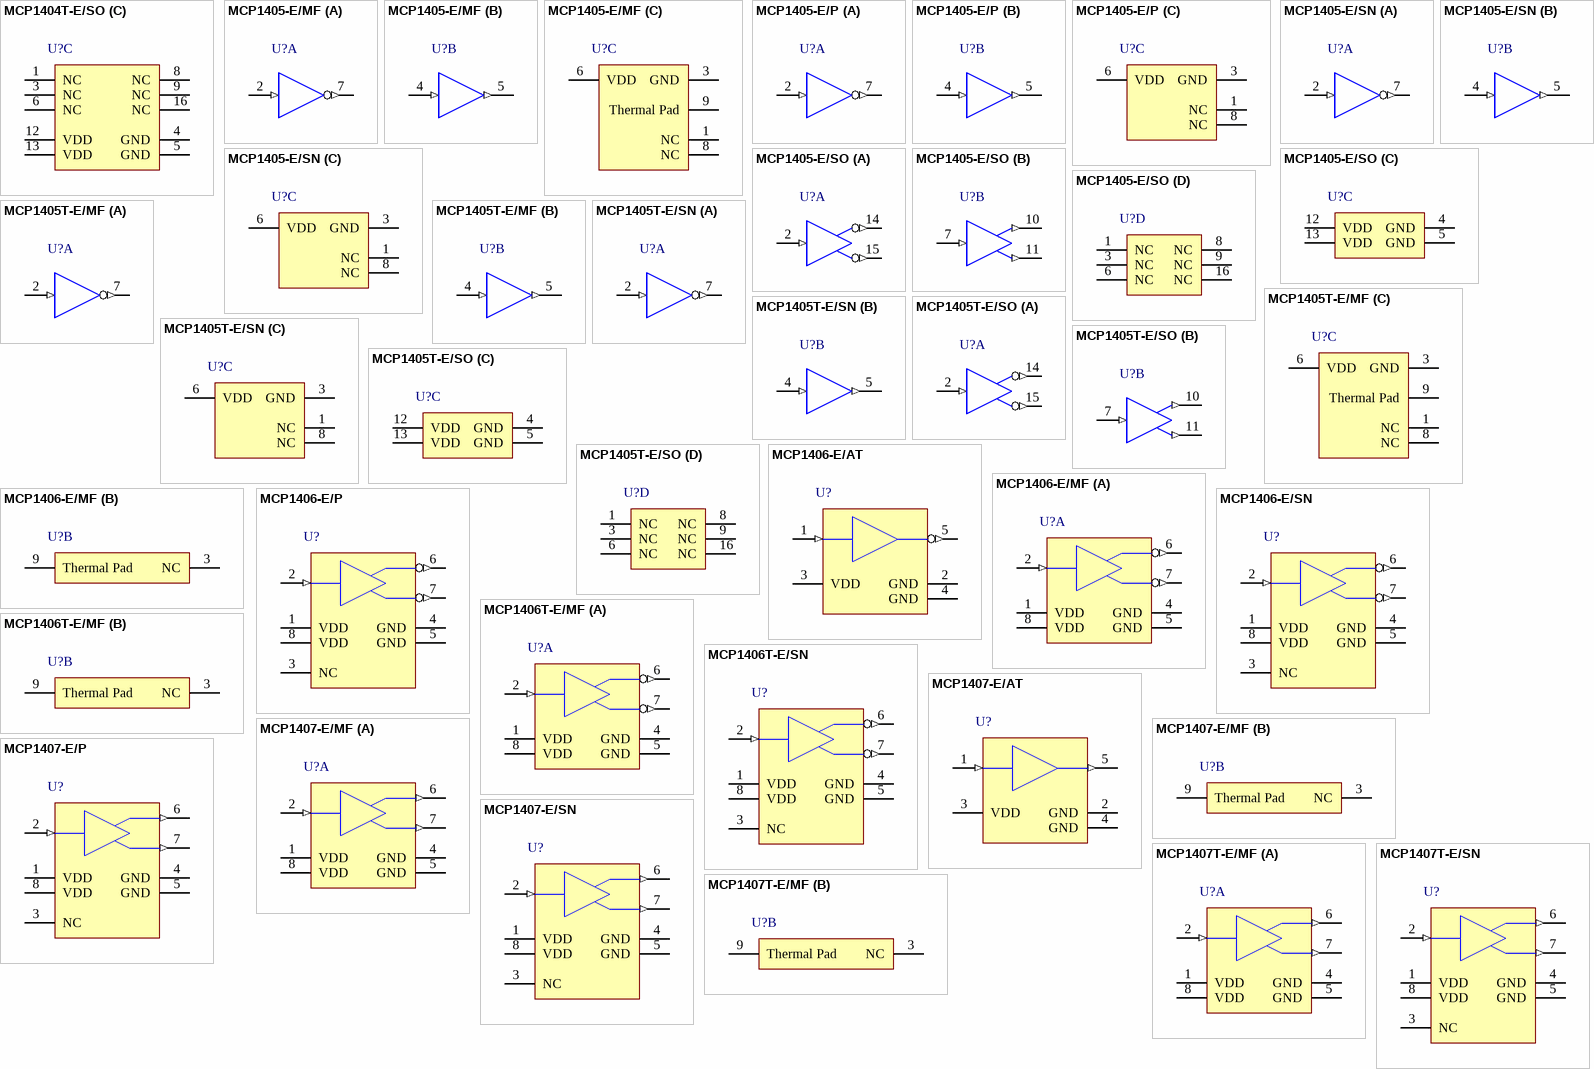
[diagram p3: symbols MCP1404T-E/SO to MCP1407T-E/SN]

## MCP1404T-E/SO
designator U?
4.5A Dual High-Speed Power MOSFET Drivers, Non Inverting, Extended Temperature, Tape and Reel; Manufacturer: Microchip; PartNumber: MCP1404T-E/SO; DatasheetVersion: revB, May-2007; PackageVersion: revBB, Aug-2009; PackageReference: SOIC-SO16; PackageDescription: 16-Lead Plastic Small Outline (SO) - Wide 7.50mm Body [SOIC]; Supplier 1: Digi-Key; Supplier Part Number 1: MCP1404T-E/SO-ND; Supplier 2: Mouser; Supplier Part Number 2: 579-MCP1404T-E/SO; Mounting Technology: Surface Mount; Code_JEDEC: MS-013-AA; Code_IPC: SOIC127P1030-16; ComponentLink1Description: Manufacturer URL; ComponentLink1URL: http://www.microchip.com/; ComponentLink2Description: Datasheet; ComponentLink2URL: http://ww1.microchip.com/downloads/en/DeviceDoc/22022b.pdf; ComponentLink3Description: Package Specification; ComponentLink3URL: http://www.microchip.com/stellent/groups/techpub_sg/documents/packagingspec/en012702.pdf
footprint SOIC-SO16_N (SOIC, 16-Leads, Body 10.3x7.5mm, Pitch 1.27mm, IPC Medium Density)
footprint SOIC-SO16_L (SOIC, 16-Leads, Body 10.3x7.5mm, Pitch 1.27mm, IPC High Density)
footprint SOIC-SO16_M (SOIC, 16-Leads, Body 10.3x7.5mm, Pitch 1.27mm, IPC Low Density)
pins on every part: 4 GND (power), 5 GND (power), 12 VDD (power), 13 VDD (power)
part A pins: 2 INA (in), 14 OUTA (out), 15 OUTA (out)
part B pins: 7 INB (in), 10 OUTB (out), 11 OUTB (out)
part C pins: 1 NC, 3 NC, 6 NC, 8 NC, 9 NC, 16 NC

## MCP1405-E/MF
designator U?
4.5A Dual High-Speed Power MOSFET Drivers, Complimentary, Extended Temperature; Manufacturer: Microchip; PartNumber: MCP1405-E/MF; DatasheetVersion: revB, May-2007; PackageVersion: revBB, Aug-2009; PackageReference: DFN-MF8; PackageDescription: 8-Lead Plastic Dual Flat, No Lead Package (MF) - 3x3x0.9mm Body [DFN]; Supplier 1: Digi-Key; Supplier Part Number 1: MCP1405-E/MF-ND; Supplier 2: Mouser; Supplier Part Number 2: 579-MCP1405-E/MF; Mounting Technology: Surface Mount; ComponentLink1Description: Manufacturer URL; ComponentLink1URL: http://www.microchip.com/; ComponentLink2Description: Datasheet; ComponentLink2URL: http://ww1.microchip.com/downloads/en/DeviceDoc/22022b.pdf; ComponentLink3Description: Package Specification; ComponentLink3URL: http://www.microchip.com/stellent/groups/techpub_sg/documents/packagingspec/en012702.pdf
footprint DFN-MF8 (SON, 8-Leads, Body 3x3mm, Pitch 0.65mm, Microchip Recommended)
part A pins: 2 INA (in), 7 ~{OUTA} (out)
part B pins: 4 INB (in), 5 OUTB (out)
part C pins: 1 NC, 3 GND (power), 6 VDD (power), 8 NC, 9 Thermal Pad

## MCP1405-E/P
designator U?
4.5A Dual High-Speed Power MOSFET Drivers, Complimentary, Extended Temperature; Manufacturer: Microchip; PartNumber: MCP1405-E/P; DatasheetVersion: revB, May-2007; PackageVersion: revBB, Aug-2009; PackageReference: PDIP300-P8; PackageDescription: 8-Lead Plastic Dual In-Line (P) - 300 mil Body [PDIP]; Supplier 1: Digi-Key; Supplier Part Number 1: MCP1405-E/P-ND; Supplier 2: Farnell; Supplier Part Number 2: 1317122; Supplier 3: Newark; Supplier Part Number 3: 31M5589; Supplier 4: Newark; Supplier Part Number 4: 17M0569; Supplier 5: Mouser; Supplier Part Number 5: 579-MCP1405-E/P; Mounting Technology: Through Hole; Code_JEDEC: MS-001; ComponentLink1Description: Manufacturer URL; ComponentLink1URL: http://www.microchip.com/; ComponentLink2Description: Datasheet; ComponentLink2URL: http://ww1.microchip.com/downloads/en/DeviceDoc/22022b.pdf; ComponentLink3Description: Package Specification; ComponentLink3URL: http://www.microchip.com/stellent/groups/techpub_sg/documents/packagingspec/en012702.pdf
footprint PDIP300-P8 (DIP, 8-Leads, Row Spacing 7.62mm, Pitch 2.54mm, Body 9.5x6.6mm)
part A pins: 2 INA (in), 7 ~{OUTA} (out)
part B pins: 4 INB (in), 5 OUTB (out)
part C pins: 1 NC, 3 GND (power), 6 VDD (power), 8 NC

## MCP1405-E/SN
designator U?
4.5A Dual High-Speed Power MOSFET Drivers, Complimentary, Extended Temperature; Manufacturer: Microchip; PartNumber: MCP1405-E/SN; DatasheetVersion: revB, May-2007; PackageVersion: revBB, Aug-2009; PackageReference: SOIC-SN8; PackageDescription: 8-Lead Plastic Small Outline (SN) - Narrow, 3.90mm Body [SOIC]; Supplier 1: Digi-Key; Supplier Part Number 1: MCP1405-E/SN-ND; Supplier 2: Farnell; Supplier Part Number 2: 1332078; Supplier 3: Newark; Supplier Part Number 3: 34M7408; Supplier 4: Mouser; Supplier Part Number 4: 579-MCP1405-E/SN; Mounting Technology: Surface Mount; Code_JEDEC: MS-012; Code_IPC: SOIC127P600-8; ComponentLink1Description: Manufacturer URL; ComponentLink1URL: http://www.microchip.com/; ComponentLink2Description: Datasheet; ComponentLink2URL: http://ww1.microchip.com/downloads/en/DeviceDoc/22022b.pdf; ComponentLink3Description: Package Specification; ComponentLink3URL: http://www.microchip.com/stellent/groups/techpub_sg/documents/packagingspec/en012702.pdf
footprint SOIC-SN8_N (SOIC, 8-Leads, Body 4.9x3.8mm, Pitch 1.27mm, IPC Medium Density)
footprint SOIC-SN8_L (SOIC, 8-Leads, Body 4.9x3.8mm, Pitch 1.27mm, IPC High Density)
footprint SOIC-SN8_M (SOIC, 8-Leads, Body 4.9x3.8mm, Pitch 1.27mm, IPC Low Density)
part A pins: 2 INA (in), 7 ~{OUTA} (out)
part B pins: 4 INB (in), 5 OUTB (out)
part C pins: 1 NC, 3 GND (power), 6 VDD (power), 8 NC

## MCP1405-E/SO
designator U?
4.5A Dual High-Speed Power MOSFET Drivers, Complimentary, Extended Temperature; Manufacturer: Microchip; PartNumber: MCP1405-E/SO; DatasheetVersion: revB, May-2007; PackageVersion: revBB, Aug-2009; PackageReference: SOIC-SO16; PackageDescription: 16-Lead Plastic Small Outline (SO) - Wide 7.50mm Body [SOIC]; Supplier 1: Digi-Key; Supplier Part Number 1: MCP1405-E/SO-ND; Supplier 2: Mouser; Supplier Part Number 2: 579-MCP1405-E/SO; Mounting Technology: Surface Mount; Code_JEDEC: MS-013-AA; Code_IPC: SOIC127P1030-16; ComponentLink1Description: Manufacturer URL; ComponentLink1URL: http://www.microchip.com/; ComponentLink2Description: Datasheet; ComponentLink2URL: http://ww1.microchip.com/downloads/en/DeviceDoc/22022b.pdf; ComponentLink3Description: Package Specification; ComponentLink3URL: http://www.microchip.com/stellent/groups/techpub_sg/documents/packagingspec/en012702.pdf
footprint SOIC-SO16_N (SOIC, 16-Leads, Body 10.3x7.5mm, Pitch 1.27mm, IPC Medium Density)
footprint SOIC-SO16_L (SOIC, 16-Leads, Body 10.3x7.5mm, Pitch 1.27mm, IPC High Density)
footprint SOIC-SO16_M (SOIC, 16-Leads, Body 10.3x7.5mm, Pitch 1.27mm, IPC Low Density)
part A pins: 2 INA (in), 14 ~{OUTA} (out), 15 ~{OUTA} (out)
part B pins: 7 INB (in), 10 OUTB (out), 11 OUTB (out)
part C pins: 4 GND (power), 5 GND (power), 12 VDD (power), 13 VDD (power)
part D pins: 1 NC, 3 NC, 6 NC, 8 NC, 9 NC, 16 NC

## MCP1405T-E/MF
designator U?
4.5A Dual High-Speed Power MOSFET Drivers, Complimentary, Extended Temperature, Tape and Reel; Manufacturer: Microchip; PartNumber: MCP1405T-E/MF; DatasheetVersion: revB, May-2007; PackageVersion: revBB, Aug-2009; PackageReference: DFN-MF8; PackageDescription: 8-Lead Plastic Dual Flat, No Lead Package (MF) - 3x3x0.9mm Body [DFN]; Supplier 1: Digi-Key; Supplier Part Number 1: MCP1405T-E/MFTR-ND; Supplier 2: Mouser; Supplier Part Number 2: 579-MCP1405T-E/MF; Mounting Technology: Surface Mount; ComponentLink1Description: Manufacturer URL; ComponentLink1URL: http://www.microchip.com/; ComponentLink2Description: Datasheet; ComponentLink2URL: http://ww1.microchip.com/downloads/en/DeviceDoc/22022b.pdf; ComponentLink3Description: Package Specification; ComponentLink3URL: http://www.microchip.com/stellent/groups/techpub_sg/documents/packagingspec/en012702.pdf
footprint DFN-MF8 (SON, 8-Leads, Body 3x3mm, Pitch 0.65mm, Microchip Recommended)
part A pins: 2 INA (in), 7 ~{OUTA} (out)
part B pins: 4 INB (in), 5 OUTB (out)
part C pins: 1 NC, 3 GND (power), 6 VDD (power), 8 NC, 9 Thermal Pad

## MCP1405T-E/SN
designator U?
4.5A Dual High-Speed Power MOSFET Drivers, Complimentary, Extended Temperature, Tape and Reel; Manufacturer: Microchip; PartNumber: MCP1405T-E/SN; DatasheetVersion: revB, May-2007; PackageVersion: revBB, Aug-2009; PackageReference: SOIC-SN8; PackageDescription: 8-Lead Plastic Small Outline (SN) - Narrow, 3.90mm Body [SOIC]; Supplier 1: Digi-Key; Supplier Part Number 1: MCP1405T-E/SNTR-ND; Supplier 2: Mouser; Supplier Part Number 2: 579-MCP1405T-E/SN; Mounting Technology: Surface Mount; Code_JEDEC: MS-012; Code_IPC: SOIC127P600-8; ComponentLink1Description: Manufacturer URL; ComponentLink1URL: http://www.microchip.com/; ComponentLink2Description: Datasheet; ComponentLink2URL: http://ww1.microchip.com/downloads/en/DeviceDoc/22022b.pdf; ComponentLink3Description: Package Specification; ComponentLink3URL: http://www.microchip.com/stellent/groups/techpub_sg/documents/packagingspec/en012702.pdf
footprint SOIC-SN8_N (SOIC, 8-Leads, Body 4.9x3.8mm, Pitch 1.27mm, IPC Medium Density)
footprint SOIC-SN8_L (SOIC, 8-Leads, Body 4.9x3.8mm, Pitch 1.27mm, IPC High Density)
footprint SOIC-SN8_M (SOIC, 8-Leads, Body 4.9x3.8mm, Pitch 1.27mm, IPC Low Density)
part A pins: 2 INA (in), 7 ~{OUTA} (out)
part B pins: 4 INB (in), 5 OUTB (out)
part C pins: 1 NC, 3 GND (power), 6 VDD (power), 8 NC

## MCP1405T-E/SO
designator U?
4.5A Dual High-Speed Power MOSFET Drivers, Complimentary, Extended Temperature, Tape and Reel; Manufacturer: Microchip; PartNumber: MCP1405T-E/SO; DatasheetVersion: revB, May-2007; PackageVersion: revBB, Aug-2009; PackageReference: SOIC-SO16; PackageDescription: 16-Lead Plastic Small Outline (SO) - Wide 7.50mm Body [SOIC]; Supplier 1: Digi-Key; Supplier Part Number 1: MCP1405T-E/SO-ND; Supplier 2: Mouser; Supplier Part Number 2: 579-MCP1405T-E/SO; Mounting Technology: Surface Mount; Code_JEDEC: MS-013-AA; Code_IPC: SOIC127P1030-16; ComponentLink1Description: Manufacturer URL; ComponentLink1URL: http://www.microchip.com/; ComponentLink2Description: Datasheet; ComponentLink2URL: http://ww1.microchip.com/downloads/en/DeviceDoc/22022b.pdf; ComponentLink3Description: Package Specification; ComponentLink3URL: http://www.microchip.com/stellent/groups/techpub_sg/documents/packagingspec/en012702.pdf
footprint SOIC-SO16_N (SOIC, 16-Leads, Body 10.3x7.5mm, Pitch 1.27mm, IPC Medium Density)
footprint SOIC-SO16_L (SOIC, 16-Leads, Body 10.3x7.5mm, Pitch 1.27mm, IPC High Density)
footprint SOIC-SO16_M (SOIC, 16-Leads, Body 10.3x7.5mm, Pitch 1.27mm, IPC Low Density)
part A pins: 2 INA (in), 14 ~{OUTA} (out), 15 ~{OUTA} (out)
part B pins: 7 INB (in), 10 OUTB (out), 11 OUTB (out)
part C pins: 4 GND (power), 5 GND (power), 12 VDD (power), 13 VDD (power)
part D pins: 1 NC, 3 NC, 6 NC, 8 NC, 9 NC, 16 NC

## MCP1406-E/AT
designator U?
6A High-Speed Power MOSFET Drivers, Inverting, Extended Temperature; Manufacturer: Microchip; PartNumber: MCP1406-E/AT; DatasheetVersion: revA, Dec-2006; PackageVersion: revBB, Aug-2009; PackageReference: TO-220-AT5; PackageDescription: 5-Lead Plastic Transistor Outline (AT) [TO-220]; Supplier 1: Digi-Key; Supplier Part Number 1: MCP1406-E/AT-ND; Supplier 2: Mouser; Supplier Part Number 2: 579-MCP1406-E/AT; Mounting Technology: Through Hole; ComponentLink1Description: Manufacturer URL; ComponentLink1URL: http://www.microchip.com/; ComponentLink2Description: Datasheet; ComponentLink2URL: http://ww1.microchip.com/downloads/en/DeviceDoc/22019a.pdf; ComponentLink3Description: Package Specification; ComponentLink3URL: http://www.microchip.com/stellent/groups/techpub_sg/documents/packagingspec/en012702.pdf
footprint TO-220-AT5 (TO, Thru-Hole, Vertical, Heatsink Mounted; 5 In-Line Leads; Pitch 1.70 mm)
pins: 1 IN (in), 2 GND (power), 3 VDD (power), 4 GND (power), 5 ~{OUT} (out)

## MCP1406-E/MF
designator U?
6A High-Speed Power MOSFET Drivers, Inverting, Extended Temperature; Manufacturer: Microchip; PartNumber: MCP1406-E/MF; DatasheetVersion: revA, Dec-2006; PackageVersion: revBB, Aug-2009; PackageReference: DFN-MF8; PackageDescription: 8-Lead Plastic Dual Flat, No Lead Package (MF) - 3x3x0.9mm Body [DFN]; Supplier 1: Digi-Key; Supplier Part Number 1: MCP1406-E/MF-ND; Supplier 2: Mouser; Supplier Part Number 2: 579-MCP1406-E/MF; Mounting Technology: Surface Mount; ComponentLink1Description: Manufacturer URL; ComponentLink1URL: http://www.microchip.com/; ComponentLink2Description: Datasheet; ComponentLink2URL: http://ww1.microchip.com/downloads/en/DeviceDoc/22019a.pdf; ComponentLink3Description: Package Specification; ComponentLink3URL: http://www.microchip.com/stellent/groups/techpub_sg/documents/packagingspec/en012702.pdf
footprint DFN-MF8 (SON, 8-Leads, Body 3x3mm, Pitch 0.65mm, Microchip Recommended)
part A pins: 1 VDD (power), 2 IN (in), 4 GND (power), 5 GND (power), 6 ~{OUT} (out), 7 ~{OUT} (out), 8 VDD (power)
part B pins: 3 NC, 9 Thermal Pad

## MCP1406-E/P
designator U?
6A High-Speed Power MOSFET Drivers, Inverting, Extended Temperature; Manufacturer: Microchip; PartNumber: MCP1406-E/P; DatasheetVersion: revA, Dec-2006; PackageVersion: revBB, Aug-2009; PackageReference: PDIP300-P8; PackageDescription: 8-Lead Plastic Dual In-Line (P) - 300 mil Body [PDIP]; Supplier 1: Digi-Key; Supplier Part Number 1: MCP1406-E/P-ND; Supplier 2: Farnell; Supplier Part Number 2: 1317123; Supplier 3: Newark; Supplier Part Number 3: 31M5590; Supplier 4: Newark; Supplier Part Number 4: 17M0575; Supplier 5: Mouser; Supplier Part Number 5: 579-MCP1406-E/P; Mounting Technology: Through Hole; Code_JEDEC: MS-001; ComponentLink1Description: Manufacturer URL; ComponentLink1URL: http://www.microchip.com/; ComponentLink2Description: Datasheet; ComponentLink2URL: http://ww1.microchip.com/downloads/en/DeviceDoc/22019a.pdf; ComponentLink3Description: Package Specification; ComponentLink3URL: http://www.microchip.com/stellent/groups/techpub_sg/documents/packagingspec/en012702.pdf
footprint PDIP300-P8 (DIP, 8-Leads, Row Spacing 7.62mm, Pitch 2.54mm, Body 9.5x6.6mm)
pins: 1 VDD (power), 2 IN (in), 3 NC, 4 GND (power), 5 GND (power), 6 ~{OUT} (out), 7 ~{OUT} (out), 8 VDD (power)